# EAGLE library part MAX3222 (library camillo_parts)
MAX3222 - 3-V to 5.5-V Multichannel RS-232 Line Driver/Receiver
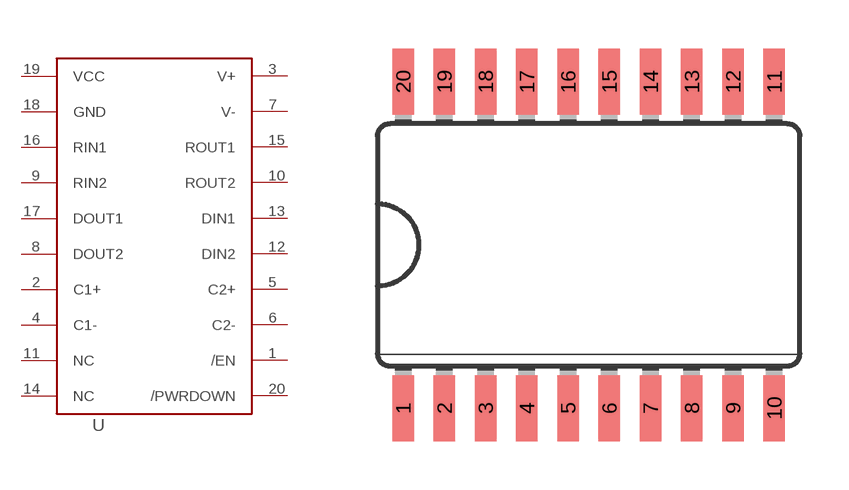
[diagram p1: symbol with the pads of SO20W; footprint SO20W]

Designator prefix -

## MAX3222SO20W  [SO20W]
1  /EN  in
2  C1+
3  V+
4  C1-
5  C2+
6  C2-
7  V-
8  DOUT2  out
9  RIN2  in
10  ROUT2  out
11  NC  nc
12  DIN2  in
13  DIN1  in
14  NC  nc
15  ROUT1  out
16  RIN1  in
17  DOUT1  out
18  GND  pwr
19  VCC  pwr
20  /PWRDOWN  in

## Footprint SO20W (pad centres in mm)
Wide Small Outline package 300 mil
smd 0.66 x 2.032: 1 -5.715,-5.029; 2 -4.445,-5.029; 3 -3.175,-5.029; 4 -1.905,-5.029; 5 -0.635,-5.029; 6 0.635,-5.029; 7 1.905,-5.029; 8 3.175,-5.029; 9 4.445,-5.029; 10 5.715,-5.029; 11 5.715,5.029; 12 4.445,5.029; 13 3.175,5.029; 14 1.905,5.029; 15 0.635,5.029; 16 -0.635,5.029; 17 -1.905,5.029; 18 -3.175,5.029; 19 -4.445,5.029; 20 -5.715,5.029